# Altium footprint library ELEC(8.0X10.5)-AV.PcbLib: 1 footprints
Each footprint in its own frame and in the unit in brackets; x right, y up, seen from the top. Pads: shape width x height; smd on the part's side, far side on the other; paste and mask are expansions set on the pad; w line width, h text height; cw(c..) or ccw(c..) is an arc to the next point about the centre after c.
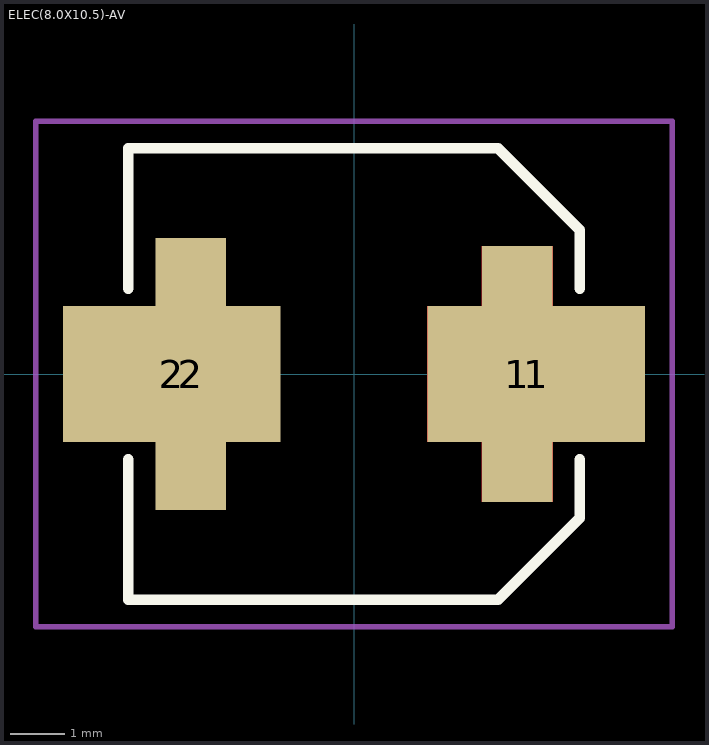
[diagram p0: the footprint, top view; thin cyan lines are the x and y axes]

## ELEC(8.0X10.5)-AV [mm]
pads (4):
  rect 1.3x4.7 smd: 1(3,0)
  rect 4x2.5 smd: 1(3.35,0) 2(-3.35,0)
  rect 1.3x5 smd: 2(-3,0)
Top Layer:
  region: 3.65,-2.35 3.65,-1.25 5.35,-1.25 5.35,1.25 3.65,1.25 3.65,2.35 2.35,2.35 2.35,1.25 1.35,1.25 1.35,-1.25 2.35,-1.25 2.35,-2.35
Top Overlay:
  lines w0.2: -4.15,-1.57 -4.15,-4.15 2.65,-4.15 4.15,-2.65 4.15,-1.57 ; -4.15,1.57 -4.15,4.15 2.65,4.15 4.15,2.65 4.15,1.57
Top Courtyard:
  lines w0.1: -5.85,-1.25 -5.85,-4.65 ; -4.85,-4.65 -5.85,-4.65 ; 4.85,4.65 5.85,4.65 ; 5.85,1.25 5.85,4.65 ; -5.85,-4.65 5.85,-4.65 5.85,4.65 ; -5.85,-4.65 -5.85,4.65 5.85,4.65
3D body "猞8 SIZE CODE F-V.stp": height 10.5, standoff 0, extent -4.85,-4.15 4.85,4.15